# EAGLE library part CONN-6P (library pinconn)
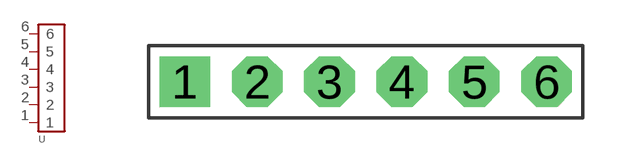
[diagram p3: symbol with the pads of CONN-6P; footprint CONN-6P]

Designator prefix -

## CONN-6P  [CONN-6P]
1  1
2  2
3  3
4  4
5  5
6  6

## Footprint CONN-6P (pad centres in mm)
drill 0.9 pad 1.778 square: 1 0,0
drill 0.9 pad 1.778 octagon: 2 2.54,0; 3 5.08,0; 4 7.62,0; 5 10.16,0; 6 12.7,0